# Altium schematic symbol library MicroUSB.Schlib: 1 symbol
Pins are listed as number, name and electrical type; pins without a type are passive.

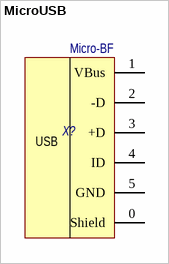
[diagram p0: symbol MicroUSB]

## MicroUSB
designator X?, comment Наименование: Micro-BF  (hidden comment: mico-BF)
USB mico-BF; Назначение: Разъем на плату
footprint USB Micro-BF
pins: 0 Shield, 1 VBus, 2 -D, 3 +D, 4 ID, 5 GND
text: USB